# EAGLE library part MAX232N (library dooba)
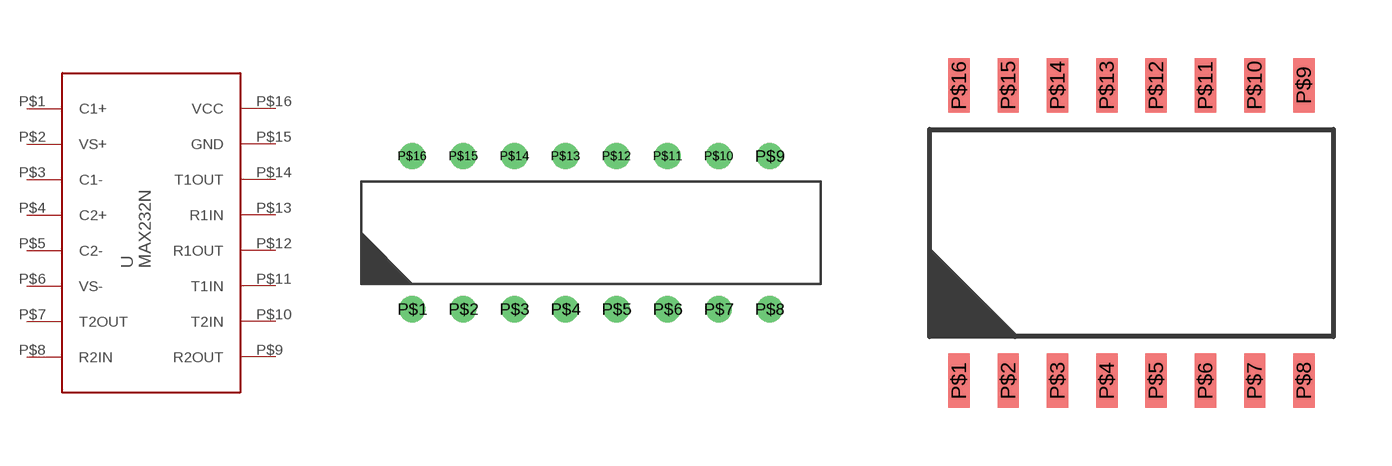
[diagram p56: symbol with the pads of PDIP16; footprints PDIP16, SO16]

Designator prefix U

## MAX232NPDIP  [PDIP16]
P$1  C1+
P$2  VS+
P$3  C1-
P$4  C2+
P$5  C2-
P$6  VS-
P$7  T2OUT
P$8  R2IN
P$9  R2OUT
P$10  T2IN
P$11  T1IN
P$12  R1OUT
P$13  R1IN
P$14  T1OUT
P$15  GND
P$16  VCC

## MAX232NNS  [SO16]
Pads as for PDIP16

## Footprint PDIP16 (pad centres in mm)
drill 0.8: P$1 -8.89,-3.81; P$2 -6.35,-3.81; P$3 -3.81,-3.81; P$4 -1.27,-3.81; P$5 1.27,-3.81; P$6 3.81,-3.81; P$7 6.35,-3.81; P$8 8.89,-3.81; P$9 8.89,3.81; P$10 6.35,3.81; P$11 3.81,3.81; P$12 1.27,3.81; P$13 -1.27,3.81; P$14 -3.81,3.81; P$15 -6.35,3.81; P$16 -8.89,3.81

## Footprint SO16 (pad centres in mm)
smd 0.55 x 1.4: P$1 -4.445,-3.81; P$2 -3.175,-3.81; P$3 -1.905,-3.81; P$4 -0.635,-3.81; P$5 0.635,-3.81; P$6 1.905,-3.81; P$7 3.175,-3.81; P$8 4.445,-3.81; P$9 4.445,3.81; P$10 3.175,3.81; P$11 1.905,3.81; P$12 0.635,3.81; P$13 -0.635,3.81; P$14 -1.905,3.81; P$15 -3.175,3.81; P$16 -4.445,3.81